# Altium footprint library MB1137.PcbLib: 43 footprints (part 1 of 3)
Each footprint in its own frame and in the unit in brackets; x right, y up, seen from the top. Pads: shape width x height; smd on the part's side, far side on the other; paste and mask are expansions set on the pad; w line width, h text height; cw(c..) or ccw(c..) is an arc to the next point about the centre after c.
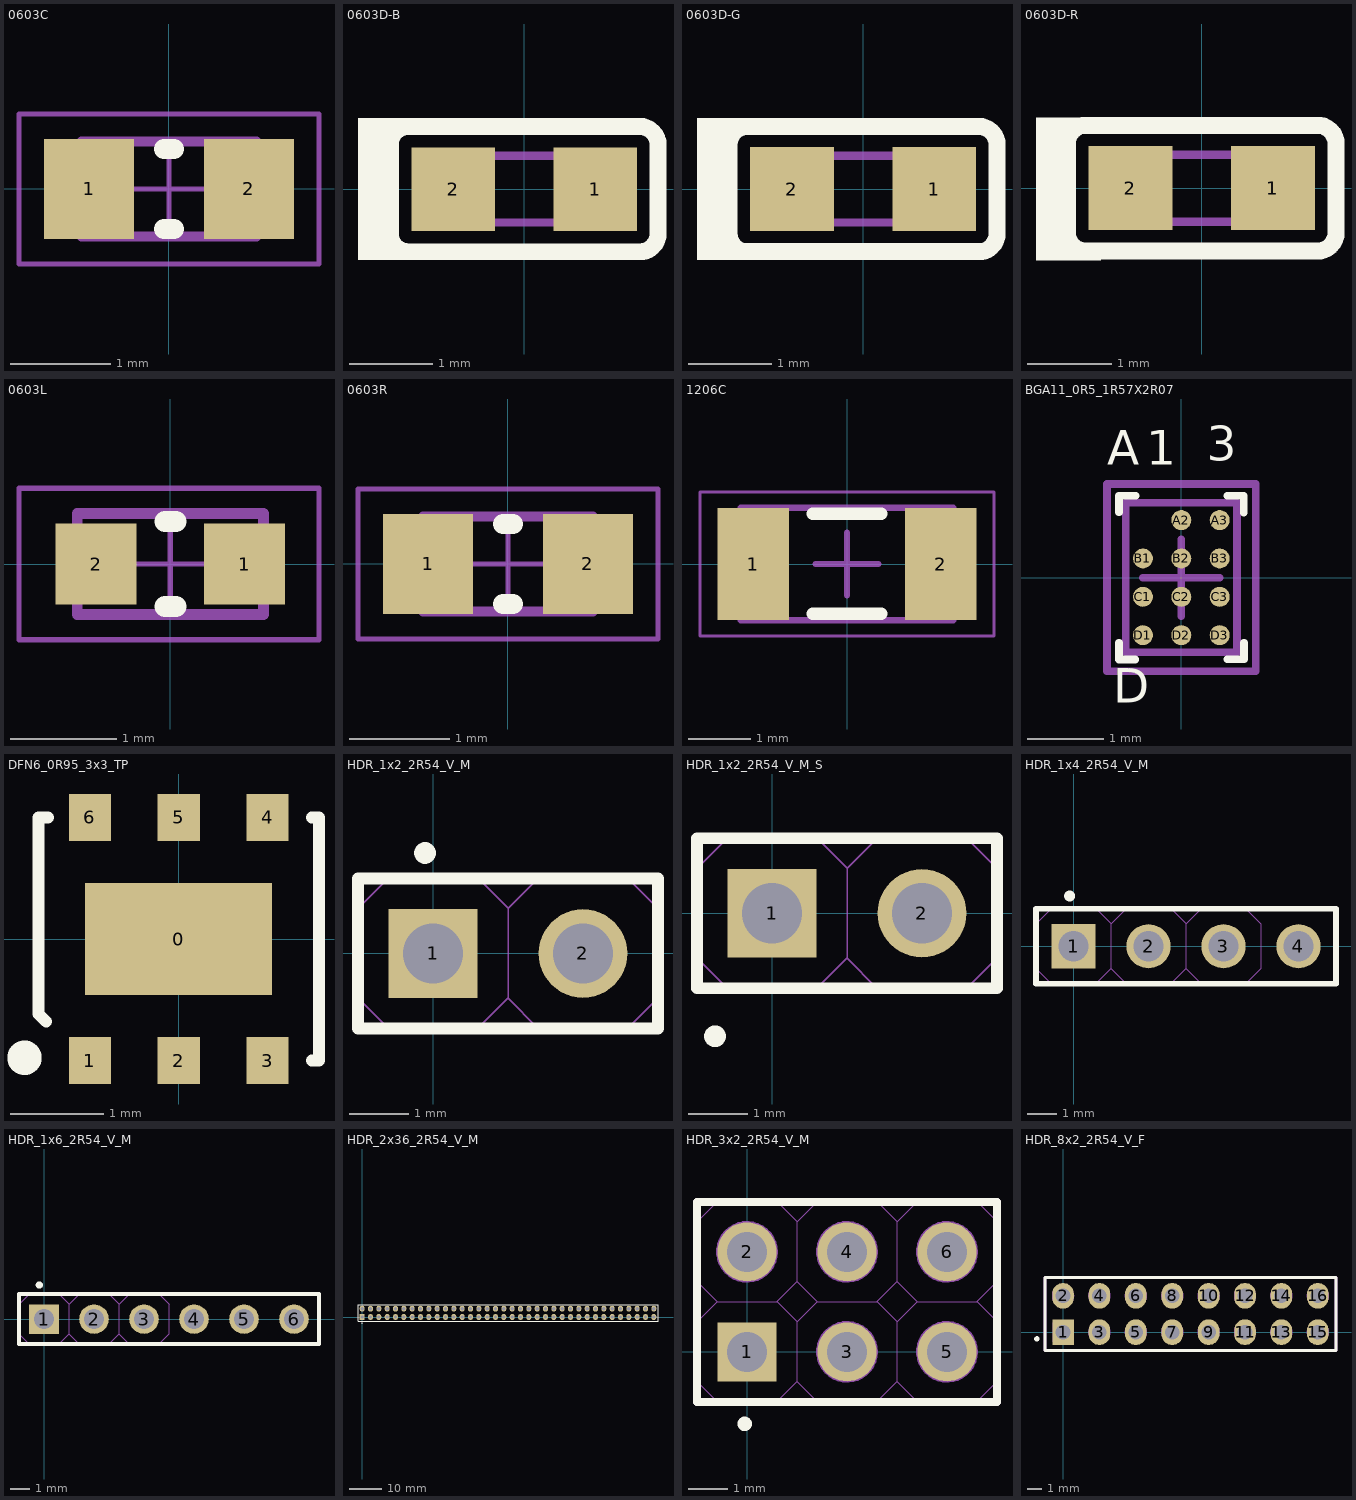
[diagram p0: the footprints below, top view; thin cyan lines are the x and y axes]

## 0603C [mm] "Chip Capacitor, Body 1.6x0.8mm, Height 1.0mm, IPC Medium Density"
height 1
pads (2):
  rect 0.9x1 smd: 1(-0.8,0) 2(0.8,0)
Top Overlay:
  lines w0.2: -0.05,-0.4 0.05,-0.4 ; -0.05,0.4 0.05,0.4
Mechanical 13:
  lines w0.1: -0.875,-0.475 -0.875,0.475 0.875,0.475 0.875,-0.475 -0.875,-0.475
Mechanical 15:
  lines w0.05: -0.475,0 0.475,0 ; 0,-0.475 0,0.475 ; -1.5,-0.75 -1.5,0.75 1.5,0.75 1.5,-0.75 -1.5,-0.75
3D body: height 1, standoff 0, extent -0.525,-0.475 0.525,0.475
3D body: height 1, standoff 0, extent -0.875,-0.475 -0.525,0.475
3D body: height 1, standoff 0, extent 0.525,-0.475 0.875,0.475

## 0603D-B [mm] "LED, SMT, Body 1.6 x 0.8 mm, 0.25mm Thickness"
height 0.25
pads (2):
  rect 1x1 smd paste+0 mask+0: 1(0.85,0) 2(-0.85,0)
Top Overlay:
  rectangle: -1.797,-0.849 -1.213,-0.684
  rectangle: -1.988,-0.849 -1.531,0.852
  rectangle: -1.797,0.667 -1.147,0.852
  lines w0.203: -1.602,-0.533 ccw(c-1.386,-0.533) -1.386,-0.749 1.386,-0.749 ccw(c1.386,-0.533) 1.602,-0.533 1.602,0.533 ccw(c1.386,0.533) 1.386,0.749 -1.386,0.749 ccw(c-1.386,0.533) -1.602,0.533 -1.602,-0.533
Mechanical 7:
  lines w0.1: -0.8,-0.4 0.8,-0.4 0.8,0.4 -0.8,0.4 -0.8,-0.4
3D body: height 0.25, standoff 0.1, extent -0.6,-0.4 0.6,0.4
3D body: height 0.2, standoff 0.15, extent -0.254,-0.254 0.254,0.254
3D body: height 0.1, standoff 0, extent -0.8,-0.4 0.8,0.4

## 0603D-G [mm] "LED, SMT, Body 1.6 x 0.8 mm, 0.25mm Thickness"
height 0.25
pads (2):
  rect 1x1 smd paste+0 mask+0: 1(0.85,0) 2(-0.85,0)
Top Overlay:
  rectangle: -1.794,0.666 -1.144,0.852
  rectangle: -1.985,-0.85 -1.528,0.852
  rectangle: -1.794,-0.85 -1.21,-0.685
  lines w0.203: -1.602,-0.533 ccw(c-1.386,-0.533) -1.386,-0.749 1.386,-0.749 ccw(c1.386,-0.533) 1.602,-0.533 1.602,0.533 ccw(c1.386,0.533) 1.386,0.749 -1.386,0.749 ccw(c-1.386,0.533) -1.602,0.533 -1.602,-0.533
Mechanical 7:
  lines w0.1: -0.8,-0.4 -0.8,0.4 0.8,0.4 0.8,-0.4 -0.8,-0.4
3D body: height 0.1, standoff 0, extent -0.8,-0.4 0.8,0.4
3D body: height 0.2, standoff 0.15, extent -0.254,-0.254 0.254,0.254
3D body: height 0.25, standoff 0.1, extent -0.6,-0.4 0.6,0.4

## 0603D-R [mm] "LED, SMT, Body 1.6 x 0.8 mm, 0.25mm Thickness"
height 0.25
pads (2):
  rect 1x1 smd paste+0 mask+0: 1(0.85,0) 2(-0.85,0)
Top Overlay:
  rectangle: -1.785,0.656 -1.134,0.841
  rectangle: -1.975,-0.861 -1.518,0.841
  rectangle: -1.785,-0.861 -1.2,-0.696
  lines w0.203: -1.602,-0.533 ccw(c-1.386,-0.533) -1.386,-0.749 1.386,-0.749 ccw(c1.386,-0.533) 1.602,-0.533 1.602,0.533 ccw(c1.386,0.533) 1.386,0.749 -1.386,0.749 ccw(c-1.386,0.533) -1.602,0.533 -1.602,-0.533
Mechanical 7:
  lines w0.1: -0.8,-0.4 -0.8,0.4 0.8,0.4 0.8,-0.4 -0.8,-0.4
3D body: height 0.1, standoff 0, extent -0.8,-0.4 0.8,0.4
3D body: height 0.2, standoff 0.15, extent -0.254,-0.254 0.254,0.254
3D body: height 0.25, standoff 0.1, extent -0.6,-0.4 0.6,0.4

## 0603L [mil] "Bead 0603L"
height 39.37
pads (2):
  rect 30x30 smd: 1(27.5,0) 2(-27.5,0)
Top Overlay:
  lines w7.87: -1.97,-15.75 1.97,-15.75 -1.97,-15.74 ; -1.97,15.75 1.97,15.75 -1.97,15.75
Mechanical 13:
  lines w3.94: -34.45,-18.7 34.45,-18.7 34.45,18.7 -34.45,18.7 -34.45,-18.7
Mechanical 15:
  lines w1.97: -18.7,0 18.7,0 ; 0,-18.7 0,18.7 ; -56,-28 -56,28 55,28 55,-28 -56,-28
3D body: height 23.62, standoff 0, extent 20.67,-18.7 34.45,18.7
3D body: height 23.62, standoff 0, extent -34.45,-18.7 -20.67,18.7
3D body: height 23.62, standoff 0, extent -20.67,-18.7 20.67,18.7

## 0603R [mm] "Chip Resistor, Body 1.6x0.8mm, IPC Medium Density"
height 0.6
pads (2):
  rect 0.9x1 smd: 1(-0.8,0) 2(0.8,0)
Top Overlay:
  lines w0.2: -0.05,-0.4 0.05,-0.4 ; -0.05,0.4 0.05,0.4
Mechanical 13:
  lines w0.1: -0.85,-0.475 -0.85,0.475 0.85,0.475 0.85,-0.475 -0.85,-0.475
Mechanical 15:
  lines w0.05: -0.475,0 0.475,0 ; 0,-0.475 0,0.475 ; -1.5,-0.75 -1.5,0.75 1.5,0.75 1.5,-0.75 -1.5,-0.75
3D body: height 0.6, standoff 0, extent 0.581,-0.474 0.85,0.475
3D body: height 0.6, standoff 0, extent -0.58,-0.474 0.581,0.475
3D body: height 0.6, standoff 0, extent -0.849,-0.474 -0.58,0.475

## 1206C [mm] "Chip Capacitor, Body 3.2x1.6mm, Height 1mm, IPC Medium Density"
height 1
pads (2):
  rect 1.15x1.8 smd: 1(-1.5,0) 2(1.5,0)
Top Overlay:
  lines w0.2: -0.55,-0.8 0.55,-0.8 ; -0.55,0.8 0.55,0.8
Mechanical 13:
  lines w0.1: -1.7,-0.9 1.7,-0.9 1.7,0.9 -1.7,0.9 -1.7,-0.9
Mechanical 15:
  lines w0.05: -2.35,-1.15 2.35,-1.15 2.35,1.15 -2.35,1.15 -2.35,-1.15
  lines w0.1: -0.5,0 0.5,0 ; 0,-0.5 0,0.5
3D body: height 1, standoff 0, extent 1.2,-0.9 1.7,0.9
3D body: height 1, standoff 0, extent -1.7,-0.9 -1.2,0.9
3D body: height 1, standoff 0, extent -1.2,-0.9 1.2,0.9

## BGA11_0R5_1R57X2R07 [mm] "2-line IPAD, EMI filter including ESD protection"
height 0.65
pads (11):
  round 0.26 smd: A2(0,0.75) A3(0.5,0.75) B1(-0.5,0.25) B2(0,0.25) B3(0.5,0.25) C1(-0.5,-0.25) C2(0,-0.25) C3(0.5,-0.25) D1(-0.5,-0.75) D2(0,-0.75) D3(0.5,-0.75)
Top Overlay:
  lines w0.1: -0.813,-0.85 -0.813,-1.067 -0.6,-1.067 ; -0.813,0.854 -0.813,1.067 -0.596,1.067 ; 0.6,-1.063 0.817,-1.063 0.817,-0.85 ; 0.6,1.067 0.813,1.067 0.813,0.85
  text "A" at -0.965,1.321 h0.76
  text "D" at -0.889,-1.778 h0.76
  text "1" at -0.459,1.321 h0.76
  text "3" at 0.33,1.372 h0.76
Mechanical 13:
  lines w0.1: -0.725,-0.975 -0.725,0.975 0.725,0.975 0.725,-0.975 -0.725,-0.975
Mechanical 15:
  lines w0.1: -0.5,0 0.5,0 ; 0,-0.5 0,0.5 ; -0.97,-1.22 -0.97,1.22 0.97,1.22 0.97,-1.22 -0.97,-1.22
3D body: height 0.65, standoff 0.12, extent -0.725,-0.975 0.725,0.975

## DFN6_0R95_3x3_TP [mm] "500 mA low quiescent current and low noise voltage regulator"
height 1
pads (7):
  rect 2x1.2 smd: 0(0,0)
  rect 0.45x0.5 smd: 1(-0.95,-1.3) 2(0,-1.3) 3(0.95,-1.3) 4(0.95,1.3) 5(0,1.3) 6(-0.95,1.3)
Top Overlay:
  circle w0.25: c-1.649,-1.27 r0.059
  lines w0.127: -1.417,-0.883 -1.5,-0.8 -1.5,1.3 -1.397,1.3 ; 1.422,-1.3 1.5,-1.3 1.5,1.3 1.422,1.3
3D body: height 1, standoff 0.05, extent -1.5,-1.5 1.5,1.5

## HDR_1x2_2R54_V_M [mm] "Male Header, Pitch 2.54mm, 4x1 Position, Mated Height 6mm, Tail Length 3mm"
height 6
pads (2):
  rect 1.5x1.5 hole 1.02: 1(0,0)
  round 1.5 hole 1.02: 2(2.54,0)
Top Overlay:
  circle w0.25: c-0.135,1.702 r0.059
  lines w0.2: -1.27,-1.27 3.81,-1.27 3.81,1.27 -1.27,1.27 -1.27,-1.27
Mechanical 13:
  lines w0.025: 3.81,-0.762 3.302,-1.27 ; 3.81,0.762 3.302,1.27 1.778,1.27 1.27,0.762 ; -1.27,-0.762 -0.762,-1.27 ; -1.27,-0.762 -1.27,0.762 ; -1.27,-0.762 -1.27,0.762 ; -1.27,0.762 -0.762,1.27 0.762,1.27 1.27,0.762 ; -0.762,-1.27 0.762,-1.27 ; -0.762,-1.27 0.762,-1.27 ; 0.762,-1.27 1.27,-0.762 ; 1.27,-0.762 1.778,-1.27 ; 1.27,-0.762 1.27,0.762 ; 1.27,-0.762 1.27,0.762 ; 1.27,-0.762 1.27,0.762 ; 1.27,-0.762 1.27,0.762 ; 1.778,-1.27 3.302,-1.27 ; 1.778,-1.27 3.302,-1.27
3D body: height 9, standoff -10, extent 2.19,-0.349 2.887,0.349
3D body: height 2.54, standoff 0, extent 1.27,-1.27 3.81,1.27
3D body: height 9, standoff -10, extent -0.35,-0.349 0.347,0.349
3D body: height 2.54, standoff 0, extent -1.27,-1.27 1.27,1.27

## HDR_1x2_2R54_V_M_S [mm] "Male Header, Pitch 2.54mm, 4x1 Position, Mated Height 6mm, Tail Length 3mm"
height 6
pads (2):
  rect 1.5x1.5 hole 1.02: 1(0,0)
  round 1.5 hole 1.02: 2(2.54,0)
Top Overlay:
  circle w0.25: c-0.965,-2.083 r0.059
  lines w0.2: -1.27,-1.27 3.81,-1.27 3.81,1.27 -1.27,1.27 -1.27,-1.27
Mechanical 13:
  lines w0.025: 3.81,-0.762 3.302,-1.27 ; 3.81,0.762 3.302,1.27 1.778,1.27 1.27,0.762 ; -1.27,-0.762 -0.762,-1.27 ; -1.27,-0.762 -1.27,0.762 ; -1.27,-0.762 -1.27,0.762 ; -1.27,0.762 -0.762,1.27 0.762,1.27 1.27,0.762 ; -0.762,-1.27 0.762,-1.27 ; -0.762,-1.27 0.762,-1.27 ; 0.762,-1.27 1.27,-0.762 ; 1.27,-0.762 1.778,-1.27 ; 1.27,-0.762 1.27,0.762 ; 1.27,-0.762 1.27,0.762 ; 1.27,-0.762 1.27,0.762 ; 1.27,-0.762 1.27,0.762 ; 1.778,-1.27 3.302,-1.27 ; 1.778,-1.27 3.302,-1.27
3D body: height 9, standoff -3, extent 2.19,-0.349 2.887,0.349
3D body: height 2.54, standoff 0, extent 1.27,-1.27 3.81,1.27
3D body: height 9, standoff -3, extent -0.35,-0.349 0.347,0.349
3D body: height 2.54, standoff 0, extent -1.27,-1.27 1.27,1.27

## HDR_1x4_2R54_V_M [mm] "Male Header, Pitch 2.54mm, 4x1 Position, Mated Height 6mm, Tail Length 3mm"
height 6
pads (4):
  rect 1.5x1.5 hole 1.02: 1(0,0)
  round 1.5 hole 1.02: 2(2.54,0) 3(5.08,0) 4(7.62,0)
Top Overlay:
  circle w0.25: c-0.135,1.702 r0.059
  lines w0.2: 8.865,1.27 -1.27,1.27 -1.27,-1.27 8.89,-1.27 8.89,1.27
Mechanical 13:
  lines w0.025: -1.27,-0.762 -0.762,-1.27 ; -1.27,-0.762 -1.27,0.762 ; -1.27,-0.762 -1.27,0.762 ; -1.27,0.762 -0.762,1.27 0.762,1.27 1.27,0.762 ; -0.762,-1.27 0.762,-1.27 ; -0.762,-1.27 0.762,-1.27 ; 0.762,-1.27 1.27,-0.762 ; 1.27,-0.762 1.778,-1.27 ; 1.27,-0.762 1.27,0.762 ; 1.27,-0.762 1.27,0.762 ; 1.27,-0.762 1.27,0.762 ; 1.27,-0.762 1.27,0.762 ; 1.27,0.762 1.778,1.27 3.302,1.27 3.81,0.762 ; 1.778,-1.27 3.302,-1.27 ; 1.778,-1.27 3.302,-1.27 ; 3.302,-1.27 3.81,-0.762 ; 3.81,-0.762 4.318,-1.27 ; 3.81,-0.762 3.81,0.762 ; 3.81,-0.762 3.81,0.762 ; 3.81,-0.762 3.81,0.762 ; 3.81,-0.762 3.81,0.762 ; 3.81,0.762 4.318,1.27 5.842,1.27 6.35,0.762 ; 4.318,-1.27 5.842,-1.27 ; 4.318,-1.27 5.842,-1.27 ; 5.842,-1.27 6.35,-0.762 ; 6.35,-0.762 6.35,0.762 ; 6.35,-0.762 6.35,0.762
3D body: height 2.54, standoff 0, extent 6.35,-1.27 8.89,1.27
3D body: height 9, standoff -2.54, extent 7.27,-0.349 7.967,0.349
3D body: height 9, standoff -2.54, extent 4.73,-0.349 5.427,0.349
3D body: height 2.54, standoff 0, extent 3.81,-1.27 6.35,1.27
3D body: height 9, standoff -2.54, extent 2.19,-0.349 2.887,0.349
3D body: height 2.54, standoff 0, extent 1.27,-1.27 3.81,1.27
3D body: height 9, standoff -2.54, extent -0.35,-0.349 0.347,0.349
3D body: height 2.54, standoff 0, extent -1.27,-1.27 1.27,1.27

## HDR_1x6_2R54_V_M [mm] "Male Header, Pitch 2.54mm, 6x1 Position, Mated Height 6mm, Tail Length 3mm"
height 6
pads (6):
  rect 1.5x1.5 hole 1.02: 1(0,0)
  round 1.5 hole 1.02: 2(2.54,0) 3(5.08,0) 4(7.62,0) 5(10.16,0) 6(12.7,0)
Top Overlay:
  circle w0.25: c-0.236,1.727 r0.059
  lines w0.2: 13.945,-1.27 -1.27,-1.27 -1.27,1.27 13.945,1.27 ; 13.97,-1.27 13.97,1.27
Mechanical 13:
  lines w0.025: -1.27,-0.762 -1.27,0.762 ; -1.27,-0.762 -1.27,0.762 ; -1.27,-0.762 -0.762,-1.27 ; -1.27,0.762 -0.762,1.27 0.762,1.27 1.27,0.762 ; -0.762,-1.27 0.762,-1.27 ; -0.762,-1.27 0.762,-1.27 ; 0.762,-1.27 1.27,-0.762 ; 1.27,-0.762 1.27,0.762 ; 1.27,-0.762 1.27,0.762 ; 1.27,-0.762 1.27,0.762 ; 1.27,-0.762 1.27,0.762 ; 1.27,-0.762 1.778,-1.27 ; 1.27,0.762 1.778,1.27 3.302,1.27 3.81,0.762 ; 1.778,-1.27 3.302,-1.27 ; 1.778,-1.27 3.302,-1.27 ; 3.302,-1.27 3.81,-0.762 ; 3.81,-0.762 3.81,0.762 ; 3.81,-0.762 3.81,0.762 ; 3.81,-0.762 3.81,0.762 ; 3.81,-0.762 3.81,0.762 ; 3.81,-0.762 4.318,-1.27 ; 3.81,0.762 4.318,1.27 5.842,1.27 6.35,0.762 ; 4.318,-1.27 5.842,-1.27 ; 4.318,-1.27 5.842,-1.27 ; 5.842,-1.27 6.35,-0.762 ; 6.35,-0.762 6.35,0.762 ; 6.35,-0.762 6.35,0.762
3D body: height 2.54, standoff 0, extent -1.27,-1.27 1.27,1.27
3D body: height 9, standoff -2.54, extent -0.35,-0.349 0.347,0.349
3D body: height 2.54, standoff 0, extent 1.27,-1.27 3.81,1.27
3D body: height 9, standoff -2.54, extent 2.19,-0.349 2.887,0.349
3D body: height 2.54, standoff 0, extent 3.81,-1.27 6.35,1.27
3D body: height 9, standoff -2.54, extent 4.73,-0.349 5.427,0.349
3D body: height 9, standoff -2.54, extent 7.27,-0.349 7.967,0.349
3D body: height 2.54, standoff 0, extent 6.35,-1.27 8.89,1.27
3D body: height 9, standoff -2.54, extent 9.81,-0.349 10.507,0.349
3D body: height 2.54, standoff 0, extent 8.89,-1.27 11.43,1.27
3D body: height 9, standoff -2.54, extent 12.35,-0.349 13.047,0.349
3D body: height 2.54, standoff 0, extent 11.43,-1.27 13.97,1.27

## HDR_2x36_2R54_V_M [mm] "Male Header, Pitch 2.54mm, 36x2 Position, Mated Height 6mm, Tail Length 3mm"
height 6
pads (72):
  rect 1.5x1.8 hole 1.02: 1(0,0)
  oval 1.5x1.8 hole 1.02: 2(0,2.54) 3(2.54,0) 4(2.54,2.54) 5(5.08,0) 6(5.08,2.54) 7(7.62,0) 8(7.62,2.54) 9(10.16,0) 10(10.16,2.54) 11(12.7,0) 12(12.7,2.54) 13(15.24,0) 14(15.24,2.54) 15(17.78,0) 16(17.78,2.54) 17(20.32,0) 18(20.32,2.54) 19(22.86,0) 20(22.86,2.54) 21(25.4,0) 22(25.4,2.54) 23(27.94,0) 24(27.94,2.54) 25(30.48,0) 26(30.48,2.54) 27(33.02,0) 28(33.02,2.54) 29(35.56,0) 30(35.56,2.54) 31(38.1,0) 32(38.1,2.54) 33(40.64,0) 34(40.64,2.54) 35(43.18,0) 36(43.18,2.54) 37(45.72,0) 38(45.72,2.54) 39(48.26,0) 40(48.26,2.54) 41(50.8,0) 42(50.8,2.54) 43(53.34,0) 44(53.34,2.54) 45(55.88,0) 46(55.88,2.54) 47(58.42,0) 48(58.42,2.54) 49(60.96,0) 50(60.96,2.54) 51(63.5,0) 52(63.5,2.54) 53(66.04,0) 54(66.04,2.54) 55(68.58,0) 56(68.58,2.54) 57(71.12,0) 58(71.12,2.54) 59(73.66,0) 60(73.66,2.54) 61(76.2,0) 62(76.2,2.54) 63(78.74,0) 64(78.74,2.54) 65(81.28,0) 66(81.28,2.54) 67(83.82,0) 68(83.82,2.54) 69(86.36,0) 70(86.36,2.54) 71(88.9,0) 72(88.9,2.54)
Top Overlay:
  circle w0.25: c-0.059,-1.905 r0.059
  lines w0.127: -1.27,-1.27 -1.27,3.81 90.17,3.81 90.17,-1.27 -1.27,-1.27
3D body: height 2.54, standoff 0, extent -1.27,1.27 1.27,3.81
3D body: height 9, standoff -2.54, extent -0.35,2.191 0.347,2.889
3D body: height 2.54, standoff 0, extent 1.27,1.27 3.81,3.81
3D body: height 9, standoff -2.54, extent 2.19,2.191 2.887,2.889
3D body: height 2.54, standoff 0, extent 3.81,1.27 6.35,3.81
3D body: height 9, standoff -2.54, extent 4.73,2.191 5.427,2.889
3D body: height 9, standoff -2.54, extent 7.27,2.191 7.967,2.889
3D body: height 2.54, standoff 0, extent 6.35,1.27 8.89,3.81
3D body: height 9, standoff -2.54, extent 9.81,2.191 10.507,2.889
3D body: height 2.54, standoff 0, extent 8.89,1.27 11.43,3.81
3D body: height 9, standoff -2.54, extent 12.35,2.191 13.047,2.889
3D body: height 2.54, standoff 0, extent 11.43,1.27 13.97,3.81
3D body: height 2.54, standoff 0, extent 24.13,1.27 26.67,3.81
3D body: height 9, standoff -2.54, extent 25.05,2.191 25.747,2.889
3D body: height 2.54, standoff 0, extent 21.59,1.27 24.13,3.81
3D body: height 9, standoff -2.54, extent 22.51,2.191 23.207,2.889
3D body: height 2.54, standoff 0, extent 19.05,1.27 21.59,3.81
3D body: height 9, standoff -2.54, extent 19.97,2.191 20.667,2.889
3D body: height 9, standoff -2.54, extent 17.43,2.191 18.127,2.889
3D body: height 2.54, standoff 0, extent 16.51,1.27 19.05,3.81
3D body: height 9, standoff -2.54, extent 14.89,2.191 15.587,2.889
3D body: height 2.54, standoff 0, extent 13.97,1.27 16.51,3.81
3D body: height 2.54, standoff 0, extent 36.83,1.27 39.37,3.81
3D body: height 9, standoff -2.54, extent 37.75,2.191 38.447,2.889
3D body: height 2.54, standoff 0, extent 34.29,1.27 36.83,3.81
3D body: height 9, standoff -2.54, extent 35.21,2.191 35.907,2.889
3D body: height 2.54, standoff 0, extent 31.75,1.27 34.29,3.81
3D body: height 9, standoff -2.54, extent 32.67,2.191 33.367,2.889
3D body: height 9, standoff -2.54, extent 30.13,2.191 30.827,2.889
3D body: height 2.54, standoff 0, extent 29.21,1.27 31.75,3.81
3D body: height 9, standoff -2.54, extent 27.59,2.191 28.287,2.889
3D body: height 2.54, standoff 0, extent 26.67,1.27 29.21,3.81
3D body: height 2.54, standoff 0, extent 49.53,1.27 52.07,3.81
3D body: height 9, standoff -2.54, extent 50.45,2.191 51.147,2.889
3D body: height 2.54, standoff 0, extent 46.99,1.27 49.53,3.81
3D body: height 9, standoff -2.54, extent 47.91,2.191 48.607,2.889
3D body: height 2.54, standoff 0, extent 44.45,1.27 46.99,3.81
3D body: height 9, standoff -2.54, extent 45.37,2.191 46.067,2.889
3D body: height 9, standoff -2.54, extent 42.83,2.191 43.527,2.889
3D body: height 2.54, standoff 0, extent 41.91,1.27 44.45,3.81
3D body: height 9, standoff -2.54, extent 40.29,2.191 40.987,2.889
3D body: height 2.54, standoff 0, extent 39.37,1.27 41.91,3.81
3D body: height 2.54, standoff 0, extent 59.69,1.27 62.23,3.81
3D body: height 9, standoff -2.54, extent 60.61,2.191 61.307,2.889
3D body: height 2.54, standoff 0, extent 57.15,1.27 59.69,3.81
3D body: height 9, standoff -2.54, extent 58.07,2.191 58.767,2.889
3D body: height 9, standoff -2.54, extent 55.53,2.191 56.227,2.889
3D body: height 2.54, standoff 0, extent 54.61,1.27 57.15,3.81
3D body: height 9, standoff -2.54, extent 52.99,2.191 53.687,2.889
3D body: height 2.54, standoff 0, extent 52.07,1.27 54.61,3.81
3D body: height 2.54, standoff 0, extent 77.47,1.27 80.01,3.81
3D body: height 9, standoff -2.54, extent 78.39,2.191 79.087,2.889
3D body: height 2.54, standoff 0, extent 80.01,1.27 82.55,3.81
3D body: height 9, standoff -2.54, extent 80.93,2.191 81.627,2.889
3D body: height 9, standoff -2.54, extent 83.47,2.191 84.167,2.889
3D body: height 2.54, standoff 0, extent 82.55,1.27 85.09,3.81
3D body: height 9, standoff -2.54, extent 86.01,2.191 86.707,2.889
3D body: height 2.54, standoff 0, extent 85.09,1.27 87.63,3.81
3D body: height 2.54, standoff 0, extent 64.77,1.27 67.31,3.81
3D body: height 9, standoff -2.54, extent 65.69,2.191 66.387,2.889
3D body: height 2.54, standoff 0, extent 67.31,1.27 69.85,3.81
3D body: height 9, standoff -2.54, extent 68.23,2.191 68.927,2.889
3D body: height 9, standoff -2.54, extent 70.77,2.191 71.467,2.889
3D body: height 2.54, standoff 0, extent 69.85,1.27 72.39,3.81
3D body: height 9, standoff -2.54, extent 73.31,2.191 74.007,2.889
3D body: height 2.54, standoff 0, extent 72.39,1.27 74.93,3.81
3D body: height 9, standoff -2.54, extent 75.85,2.191 76.547,2.889
3D body: height 2.54, standoff 0, extent 74.93,1.27 77.47,3.81
3D body: height 9, standoff -2.54, extent 63.15,2.191 63.847,2.889
3D body: height 2.54, standoff 0, extent 62.23,1.27 64.77,3.81
3D body: height 9, standoff -2.54, extent -0.349,-0.347 0.349,0.35
3D body: height 2.54, standoff 0, extent -1.27,-1.27 1.27,1.27
3D body: height 2.54, standoff 0, extent 62.23,-1.27 64.77,1.27
3D body: height 9, standoff -2.54, extent 63.15,-0.349 63.847,0.349
3D body: height 2.54, standoff 0, extent 74.93,-1.27 77.47,1.27
3D body: height 9, standoff -2.54, extent 75.85,-0.349 76.547,0.349
3D body: height 2.54, standoff 0, extent 72.39,-1.27 74.93,1.27
3D body: height 9, standoff -2.54, extent 73.31,-0.349 74.007,0.349
3D body: height 2.54, standoff 0, extent 69.85,-1.27 72.39,1.27
3D body: height 9, standoff -2.54, extent 70.77,-0.349 71.467,0.349
3D body: height 9, standoff -2.54, extent 68.23,-0.349 68.927,0.349
3D body: height 2.54, standoff 0, extent 67.31,-1.27 69.85,1.27
3D body: height 9, standoff -2.54, extent 65.69,-0.349 66.387,0.349
3D body: height 2.54, standoff 0, extent 64.77,-1.27 67.31,1.27
3D body: height 2.54, standoff 0, extent 85.09,-1.27 87.63,1.27
3D body: height 9, standoff -2.54, extent 86.01,-0.349 86.707,0.349
3D body: height 2.54, standoff 0, extent 82.55,-1.27 85.09,1.27
3D body: height 9, standoff -2.54, extent 83.47,-0.349 84.167,0.349
3D body: height 9, standoff -2.54, extent 80.93,-0.349 81.627,0.349
3D body: height 2.54, standoff 0, extent 80.01,-1.27 82.55,1.27
3D body: height 9, standoff -2.54, extent 78.39,-0.349 79.087,0.349
3D body: height 2.54, standoff 0, extent 77.47,-1.27 80.01,1.27
3D body: height 2.54, standoff 0, extent 52.07,-1.27 54.61,1.27
3D body: height 9, standoff -2.54, extent 52.99,-0.349 53.687,0.349
3D body: height 2.54, standoff 0, extent 54.61,-1.27 57.15,1.27
3D body: height 9, standoff -2.54, extent 55.53,-0.349 56.227,0.349
3D body: height 9, standoff -2.54, extent 58.07,-0.349 58.767,0.349
3D body: height 2.54, standoff 0, extent 57.15,-1.27 59.69,1.27
3D body: height 9, standoff -2.54, extent 60.61,-0.349 61.307,0.349
3D body: height 2.54, standoff 0, extent 59.69,-1.27 62.23,1.27
3D body: height 2.54, standoff 0, extent 39.37,-1.27 41.91,1.27
3D body: height 9, standoff -2.54, extent 40.29,-0.349 40.987,0.349
3D body: height 2.54, standoff 0, extent 41.91,-1.27 44.45,1.27
3D body: height 9, standoff -2.54, extent 42.83,-0.349 43.527,0.349
3D body: height 9, standoff -2.54, extent 45.37,-0.349 46.067,0.349
3D body: height 2.54, standoff 0, extent 44.45,-1.27 46.99,1.27
3D body: height 9, standoff -2.54, extent 47.91,-0.349 48.607,0.349
3D body: height 2.54, standoff 0, extent 46.99,-1.27 49.53,1.27
3D body: height 9, standoff -2.54, extent 50.45,-0.349 51.147,0.349
3D body: height 2.54, standoff 0, extent 49.53,-1.27 52.07,1.27
3D body: height 2.54, standoff 0, extent 26.67,-1.27 29.21,1.27
3D body: height 9, standoff -2.54, extent 27.59,-0.349 28.287,0.349
3D body: height 2.54, standoff 0, extent 29.21,-1.27 31.75,1.27
3D body: height 9, standoff -2.54, extent 30.13,-0.349 30.827,0.349
3D body: height 9, standoff -2.54, extent 32.67,-0.349 33.367,0.349
3D body: height 2.54, standoff 0, extent 31.75,-1.27 34.29,1.27
3D body: height 9, standoff -2.54, extent 35.21,-0.349 35.907,0.349
3D body: height 2.54, standoff 0, extent 34.29,-1.27 36.83,1.27
3D body: height 9, standoff -2.54, extent 37.75,-0.349 38.447,0.349
3D body: height 2.54, standoff 0, extent 36.83,-1.27 39.37,1.27
3D body: height 2.54, standoff 0, extent 13.97,-1.27 16.51,1.27
3D body: height 9, standoff -2.54, extent 14.89,-0.349 15.587,0.349
3D body: height 2.54, standoff 0, extent 16.51,-1.27 19.05,1.27
3D body: height 9, standoff -2.54, extent 17.43,-0.349 18.127,0.349
3D body: height 9, standoff -2.54, extent 19.97,-0.349 20.667,0.349
3D body: height 2.54, standoff 0, extent 19.05,-1.27 21.59,1.27
3D body: height 9, standoff -2.54, extent 22.51,-0.349 23.207,0.349
3D body: height 2.54, standoff 0, extent 21.59,-1.27 24.13,1.27
3D body: height 9, standoff -2.54, extent 25.05,-0.349 25.747,0.349
3D body: height 2.54, standoff 0, extent 24.13,-1.27 26.67,1.27
3D body: height 2.54, standoff 0, extent 11.43,-1.27 13.97,1.27
3D body: height 9, standoff -2.54, extent 12.35,-0.349 13.047,0.349
3D body: height 2.54, standoff 0, extent 8.89,-1.27 11.43,1.27
3D body: height 9, standoff -2.54, extent 9.81,-0.349 10.507,0.349
3D body: height 2.54, standoff 0, extent 6.35,-1.27 8.89,1.27
3D body: height 9, standoff -2.54, extent 7.27,-0.349 7.967,0.349
3D body: height 9, standoff -2.54, extent 4.73,-0.349 5.427,0.349
3D body: height 2.54, standoff 0, extent 3.81,-1.27 6.35,1.27
3D body: height 9, standoff -2.54, extent 2.19,-0.349 2.887,0.349
3D body: height 2.54, standoff 0, extent 1.27,-1.27 3.81,1.27
3D body: height 9, standoff -2.54, extent 88.55,-0.349 89.247,0.349
3D body: height 2.54, standoff 0, extent 87.63,-1.27 90.17,1.27
3D body: height 2.54, standoff 0, extent 87.63,1.27 90.17,3.81
3D body: height 9, standoff -2.54, extent 88.55,2.191 89.247,2.889

## HDR_3x2_2R54_V_M [mm] "Male Header, Pitch 2.54mm, 2x3 Position, Mated Height 6mm, Tail Length 3mm"
height 6
pads (6):
  rect 1.5x1.5 hole 1.02: 1(0,0)
  round 1.5 hole 1.02: 2(0,2.54) 3(2.54,0) 4(2.54,2.54) 5(5.08,0) 6(5.08,2.54)
Top Overlay:
  circle w0.25: c-0.059,-1.829 r0.059
  lines w0.2: -1.27,-1.27 -1.27,3.81 6.35,3.81 6.35,-1.27 -1.27,-1.27
Mechanical 7:
  circle w0.2: c2.54,0 r0.684
  circle w0.2: c5.08,0 r0.684
  circle w0.2: c5.08,2.54 r0.684
  circle w0.2: c2.54,2.54 r0.684
  circle w0.2: c0,2.54 r0.684
  lines w0.2: -1.27,-1.27 -1.27,3.81 6.35,3.81 6.35,-1.27 -1.27,-1.27 ; -0.635,-0.635 -0.635,0.635 0.635,0.635 0.635,-0.635 -0.635,-0.635
Mechanical 13:
  lines w0.025: 6.35,-0.762 5.842,-1.27 ; 6.35,0.762 5.842,1.27 ; 6.35,1.778 5.842,1.27 ; 6.35,3.302 5.842,3.81 4.318,3.81 3.81,3.302 ; -1.27,-0.762 -1.27,0.762 ; -1.27,-0.762 -1.27,0.762 ; -1.27,-0.762 -0.762,-1.27 ; -1.27,0.762 -0.762,1.27 ; -1.27,1.778 -0.762,1.27 ; -1.27,1.778 -1.27,3.302 ; -1.27,1.778 -1.27,3.302 ; -1.27,3.302 -0.762,3.81 0.762,3.81 1.27,3.302 ; -0.762,-1.27 0.762,-1.27 ; -0.762,-1.27 0.762,-1.27 ; -0.762,1.27 0.762,1.27 ; -0.762,1.27 0.762,1.27 ; -0.762,1.27 0.762,1.27 ; 0.762,-1.27 1.27,-0.762 ; 0.762,1.27 1.27,0.762 ; 0.762,1.27 1.27,1.778 ; 1.27,-0.762 1.27,0.762 ; 1.27,-0.762 1.27,0.762 ; 1.27,-0.762 1.27,0.762 ; 1.27,-0.762 1.27,0.762 ; 1.27,-0.762 1.778,-1.27 ; 1.27,0.762 1.778,1.27 ; 1.27,1.778 1.778,1.27 ; 1.27,1.778 1.27,3.302 ; 1.27,1.778 1.27,3.302 ; 1.27,1.778 1.27,3.302 ; 1.27,1.778 1.27,3.302 ; 1.27,3.302 1.778,3.81 3.302,3.81 3.81,3.302 ; 1.778,-1.27 3.302,-1.27 ; 1.778,-1.27 3.302,-1.27 ; 1.778,1.27 3.302,1.27 ; 1.778,1.27 3.302,1.27 ; 1.778,1.27 3.302,1.27 ; 3.302,-1.27 3.81,-0.762 ; 3.302,1.27 3.81,0.762 ; 3.302,1.27 3.81,1.778 ; 3.81,-0.762 3.81,0.762 ; 3.81,-0.762 3.81,0.762 ; 3.81,-0.762 3.81,0.762 ; 3.81,-0.762 3.81,0.762 ; 3.81,-0.762 4.318,-1.27 ; 3.81,0.762 4.318,1.27 ; 3.81,1.778 4.318,1.27 ; 3.81,1.778 3.81,3.302 ; 3.81,1.778 3.81,3.302 ; 3.81,1.778 3.81,3.302 ; 3.81,1.778 3.81,3.302 ; 4.318,-1.27 5.842,-1.27 ; 4.318,-1.27 5.842,-1.27 ; 4.318,1.27 5.842,1.27 ; 4.318,1.27 5.842,1.27 ; 4.318,1.27 5.842,1.27
3D body: height 2.54, standoff 0, extent -1.27,-1.27 1.27,1.27
3D body: height 2.54, standoff 0, extent 1.27,-1.27 3.81,1.27
3D body: height 2.54, standoff 0, extent 3.81,-1.27 6.35,1.27
3D body: height 2.54, standoff 0, extent 3.81,1.27 6.35,3.81
3D body: height 2.54, standoff 0, extent 1.27,1.27 3.81,3.81
3D body: height 2.54, standoff 0, extent -1.27,1.27 1.27,3.81
3D body: height 9, standoff -2.54, extent -0.349,-0.349 0.349,0.349
3D body: height 9, standoff -2.54, extent 2.191,-0.349 2.889,0.349
3D body: height 9, standoff -2.54, extent 4.731,-0.349 5.429,0.349
3D body: height 9, standoff -2.54, extent -0.349,2.191 0.349,2.889
3D body: height 9, standoff -2.54, extent 2.191,2.191 2.889,2.889
3D body: height 9, standoff -2.54, extent 4.731,2.191 5.429,2.889

## HDR_8x2_2R54_V_F [mm] "Female Header, Pitch 2.54mm, 2x8 Position, Mated Height 6mm, Tail Length 3mm"
height 6
pads (16):
  rect 1.5x1.8 hole 1.02: 1(0,0)
  oval 1.5x1.8 hole 1.02: 2(0,2.54) 3(2.54,0) 4(2.54,2.54) 5(5.08,0) 6(5.08,2.54) 7(7.62,0) 8(7.62,2.54) 9(10.16,0) 10(10.16,2.54) 11(12.7,0) 12(12.7,2.54) 13(15.24,0) 14(15.24,2.54) 15(17.78,0) 16(17.78,2.54)
Top Overlay:
  circle w0.25: c-1.829,-0.465 r0.059
  lines w0.2: -1.27,-1.27 19.05,-1.27 19.05,3.81 -1.27,3.81 -1.27,-1.27
Mechanical 7:
  circle w0.2: c0,2.54 r0.684
  circle w0.2: c2.54,2.54 r0.684
  circle w0.2: c5.08,2.54 r0.684
  circle w0.2: c7.62,2.54 r0.684
  circle w0.2: c10.16,2.54 r0.684
  circle w0.2: c12.7,2.54 r0.684
  circle w0.2: c12.7,0 r0.684
  circle w0.2: c10.16,0 r0.684
  circle w0.2: c7.62,0 r0.684
  circle w0.2: c5.08,0 r0.684
  circle w0.2: c2.54,0 r0.684
  circle w0.2: c15.24,0 r0.684
  circle w0.2: c17.78,0 r0.684
  circle w0.2: c17.78,2.54 r0.684
  circle w0.2: c15.24,2.54 r0.684
  lines w0.2: -1.27,-1.27 19.05,-1.27 19.05,3.81 -1.27,3.81 -1.27,-1.27 ; -0.635,-0.635 0.635,-0.635 0.635,0.635 -0.635,0.635 -0.635,-0.635
3D body: height 2.54, standoff -10, extent -0.349,-0.349 0.349,0.349
3D body: height 8.64, standoff 0, extent -1.268,-1.27 1.272,1.27
3D body: height 2.54, standoff -10, extent -0.349,2.191 0.349,2.889
3D body: height 8.64, standoff 0, extent -1.268,1.27 1.272,3.81
3D body: height 2.54, standoff -10, extent 2.191,2.191 2.889,2.889
3D body: height 8.64, standoff 0, extent 1.272,1.27 3.812,3.81
3D body: height 2.54, standoff -10, extent 2.191,-0.349 2.889,0.349
3D body: height 8.64, standoff 0, extent 1.272,-1.27 3.812,1.27
3D body: height 2.54, standoff -10, extent 4.731,2.191 5.429,2.889
3D body: height 8.64, standoff 0, extent 3.812,1.27 6.352,3.81
3D body: height 2.54, standoff -10, extent 4.731,-0.349 5.429,0.349
3D body: height 8.64, standoff 0, extent 3.812,-1.27 6.352,1.27
3D body: height 2.54, standoff -10, extent 7.271,2.191 7.969,2.889
3D body: height 8.64, standoff 0, extent 6.352,1.27 8.892,3.81
3D body: height 2.54, standoff -10, extent 7.271,-0.349 7.969,0.349
3D body: height 8.64, standoff 0, extent 6.352,-1.27 8.892,1.27
3D body: height 2.54, standoff -10, extent 9.811,-0.349 10.509,0.349
3D body: height 8.64, standoff 0, extent 8.892,-1.27 11.432,1.27
3D body: height 2.54, standoff -10, extent 9.811,2.191 10.509,2.889
3D body: height 8.64, standoff 0, extent 8.892,1.27 11.432,3.81
3D body: height 2.54, standoff -10, extent 12.351,2.191 13.049,2.889
3D body: height 8.64, standoff 0, extent 11.432,1.27 13.972,3.81
3D body: height 2.54, standoff -10, extent 12.351,-0.349 13.049,0.349
3D body: height 8.64, standoff 0, extent 11.432,-1.27 13.972,1.27
3D body: height 8.64, standoff 0, extent 16.512,-1.27 19.052,1.27
3D body: height 2.54, standoff -10, extent 17.431,-0.349 18.129,0.349
3D body: height 8.64, standoff 0, extent 16.512,1.27 19.052,3.81
3D body: height 2.54, standoff -10, extent 17.431,2.191 18.129,2.889
3D body: height 8.64, standoff 0, extent 13.972,1.27 16.512,3.81
3D body: height 2.54, standoff -10, extent 14.891,2.191 15.589,2.889
3D body: height 8.64, standoff 0, extent 13.972,-1.27 16.512,1.27
3D body: height 2.54, standoff -10, extent 14.891,-0.349 15.589,0.349